# Altium footprint library Fairchild PMOS - DPAK.PcbLib: 1 footprints
Each footprint in its own frame and in the unit in brackets; x right, y up, seen from the top. Pads: shape width x height; smd on the part's side, far side on the other; paste and mask are expansions set on the pad; w line width, h text height; cw(c..) or ccw(c..) is an arc to the next point about the centre after c.
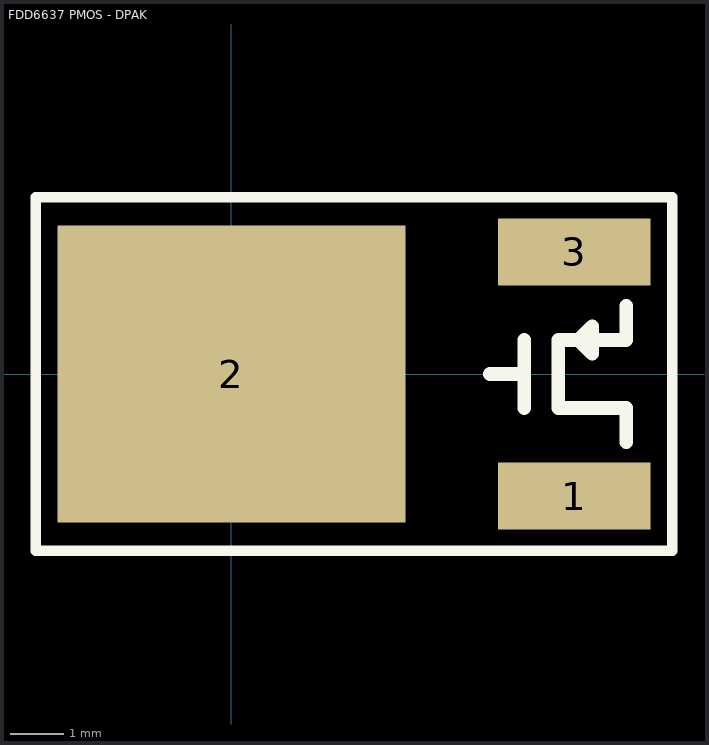
[diagram p0: the footprint, top view; thin cyan lines are the x and y axes]

## FDD6637 PMOS - DPAK [mm]
pads (3):
  rect 2.85x1.25 smd: 1(6.4,-2.28) 3(6.4,2.28)
  rect 6.5x5.55 smd: 2(0,0)
Top Overlay:
  lines w0.2: -3.65,-3.3 8.225,-3.3 8.225,3.3 -3.65,3.3 -3.65,-3.3
  lines w0.254: 4.826,0 5.461,0 5.461,-0.635 5.461,0.635 ; 7.366,-1.27 7.366,-0.635 6.096,-0.635 6.096,0.635 7.366,0.635 7.366,1.27 ; 6.477,0.635 6.731,0.381 6.731,0.889 6.477,0.635
3D body "User Library-DPAK-1.step": height 2.41, standoff 0, extent -2.604,-3.27 7.335,3.27